# EAGLE library part TCA95*5 (library bschulz)
TCA9555/TCA9535 - I2C I/O Expander, 16 bit wtih interrupt Characteristics: Vcc: 1.65V ~ 5.5V IOut: 25 mA IQ: 3.5μA Operating Temperature: -40°C to 85°C Internal Pullups (TCA9555 Only) Digikey: 296-24857-1-ND (TCA9555) <https://www.digikey.com/product-detail/en/texas-instruments/TCA9555RTWR/296-24857-1-ND/2096240> 296-25156-1-ND (TCA9535) <https://www.digikey.com/product-detail/en/TCA9535RTWR/296-25156-1-ND/2170385/?itemSeq=278335859>
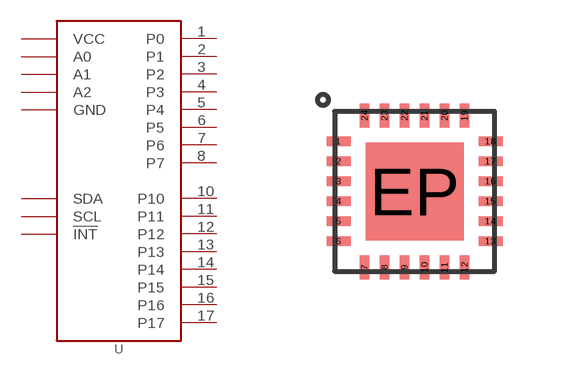
[diagram p78: symbol with the pads of RTW_S-PWQFN-N24; footprint RTW_S-PWQFN-N24]

Designator prefix U

## TCA955RTW (MF: TI), TCA9535RTW (DIGIKEY: 296-25156-1-ND; DISP: TCA9535; MF: TI; MPN: TCA9535RTWR), TCA9555RTW (DIGIKEY: 296-24857-1-ND; DISP: TCA9555; MF: TI; MPN: TCA9555RTWR)  [RTW_S-PWQFN-N24]
1  P0
2  P1
3  P2
4  P3
5  P4
6  P5
7  P6
8  P7
9  GND  pwr
10  P10
11  P11
12  P12
13  P13
14  P14
15  P15
16  P16
17  P17
18  A0  in
19  SCL
20  SDA
21  VCC  pwr
22  !INT  out
23  A1  in
24  A2  in
EP  GND  pwr

## Footprint RTW_S-PWQFN-N24 (pad centres in mm)
4x4 QFN 24 Pin
smd 0.6 x 0.24: 1 -1.9,1.25; 2 -1.9,0.75; 3 -1.9,0.25; 4 -1.9,-0.25; 5 -1.9,-0.75; 6 -1.9,-1.25; 13 1.9,-1.25; 14 1.9,-0.75; 15 1.9,-0.25; 16 1.9,0.25; 17 1.9,0.75; 18 1.9,1.25
smd 0.24 x 0.6: 7 -1.25,-1.9; 8 -0.75,-1.9; 9 -0.25,-1.9; 10 0.25,-1.9; 11 0.75,-1.9; 12 1.25,-1.9; 19 1.25,1.9; 20 0.75,1.9; 21 0.25,1.9; 22 -0.25,1.9; 23 -0.75,1.9; 24 -1.25,1.9
smd 2.45 x 2.45: EP 0,0